# EAGLE library part KHHD004A2B (library MotorControllerEagleLibrary)
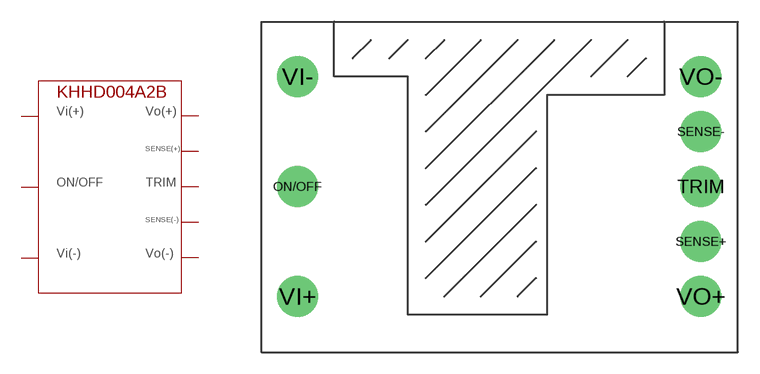
[diagram p6: symbol with the pads of KHHD004A2B; footprint KHHD004A2B]

Designator prefix -

## KHHD004A2B  [KHHD004A2B]
ON/OFF  ON/OFF
SENSE+  SENSE(+)
SENSE-  SENSE(-)
TRIM  TRIM
VI+  VI(+)
VI-  VI(-)
VO+  VO(+)
VO-  VO(-)

## Footprint KHHD004A2B (pad centres in mm)
drill 1.9: ON/OFF 0,7.62; SENSE+ 27.94,3.81; SENSE- 27.94,11.43; TRIM 27.94,7.62; VI+ 0,0; VI- 0,15.24; VO+ 27.94,0; VO- 27.94,15.24